# EAGLE library part PCM1863 (library df4iah_adc)
Texas Instruments PCM1863 4-Channel or 2-Channel, 192-kHz, Audio ADCs
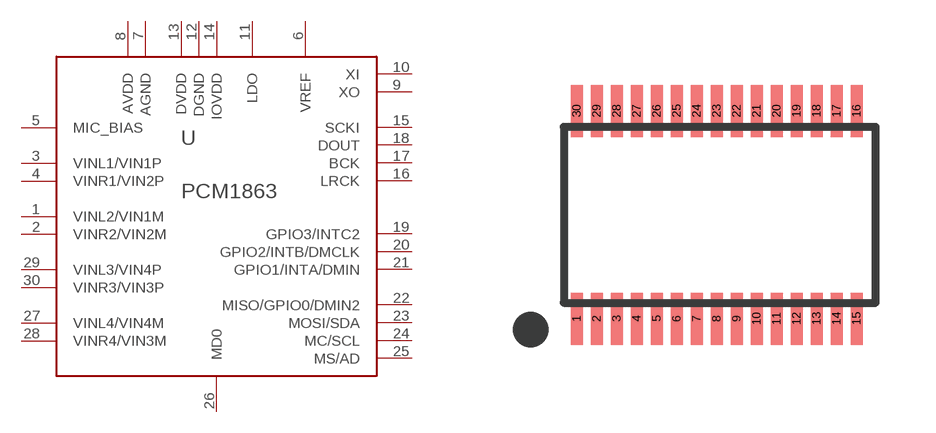
[diagram p2: symbol with the pads of R-PDSO-G30; footprint R-PDSO-G30]

Designator prefix U

## PCM1863  [R-PDSO-G30]
1  VINL2/VIN1M  pas
2  VINR2/VIN2M  pas
3  VINL1/VIN1P  pas
4  VINR1/VIN2P  pas
5  MIC_BIAS  pas
6  VREF  pas
7  AGND  pas
8  AVDD  pas
9  XO  pas
10  XI  pas
11  LDO  pas
12  DGND  pas
13  DVDD  pwr
14  IOVDD  pwr
15  SCKI  in
16  LRCK
17  BCK
18  DOUT  out
19  GPIO3/INTC2
20  GPIO2/INTB/DMCLK
21  GPIO1/INTA/DMIN
22  MISO/GPIO0/DMIN2
23  MOSI/SDA
24  MC/SCL  in
25  MS/AD  in
26  MD0  in
27  VINL4/VIN4M  pas
28  VINR4/VIN3M  pas
29  VINL3/VIN4P  pas
30  VINR3/VIN3P  pas

## Footprint R-PDSO-G30 (pad centres in mm)
R-PDSO-G30 Pitch: 0.5 mm
smd 0.3 x 1.3: 1 -2.925,-2.6; 2 -2.425,-2.6; 3 -1.925,-2.6; 4 -1.425,-2.6; 5 -0.925,-2.6; 6 -0.425,-2.6; 7 0.075,-2.6; 8 0.575,-2.6; 9 1.075,-2.6; 10 1.575,-2.6; 11 2.075,-2.6; 12 2.575,-2.6; 13 3.075,-2.6; 14 3.575,-2.6; 15 4.075,-2.6; 16 4.075,2.6; 17 3.575,2.6; 18 3.075,2.6; 19 2.575,2.6; 20 2.075,2.6; 21 1.575,2.6; 22 1.075,2.6; 23 0.575,2.6; 24 0.075,2.6; 25 -0.425,2.6; 26 -0.925,2.6; 27 -1.425,2.6; 28 -1.925,2.6; 29 -2.425,2.6; 30 -2.925,2.6